# EAGLE library part 61300811021 (library Board-to-Board (rev18a))
WR-PHD 2.54mm Angled Pin Header, 8 Pins =>Con_BTB_PHD_2.54_1_THT_61300811021 <http://katalog.we-online.de/media/images/eican/Con_BTB_PHD_2.54_1_THT_61303211021_pf2.jpg> Details see: http://katalog.we-online.de/en/em/613_0xx_110_21 Created 2014-05-29, Karrer Zheng 2014 (C) Würth Elektronik
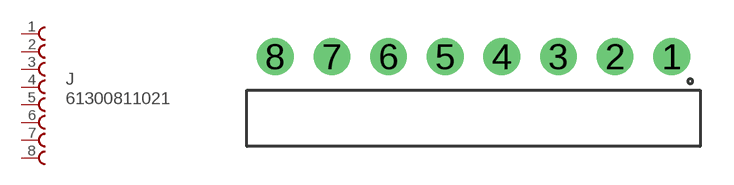
[diagram p41: symbol with the pads of 61300811021; footprint 61300811021]

Designator prefix J

## 61300811021  [61300811021]
1  1  pas
2  2  pas
3  3  pas
4  4  pas
5  5  pas
6  6  pas
7  7  pas
8  8  pas

## Footprint 61300811021 (pad centres in mm)
WR-PHD 2.54mm Angled Pin Header, 8 Pins
drill 1.1: 1 8.89,0; 2 6.35,0; 3 3.81,0; 4 1.27,0; 5 -1.27,0; 6 -3.81,0; 7 -6.35,0; 8 -8.89,0